# Altium schematic symbol library MOSFETs-SO.SchLib: 8 symbols
Pins are listed as number, name and electrical type; pins without a type are passive.

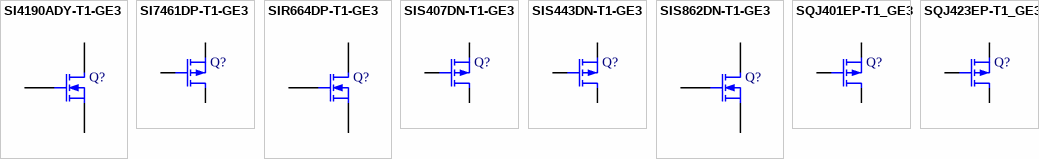
[diagram p0: symbols SI4190ADY-T1-GE3 to SQJ423EP-T1_GE3]

## SI4190ADY-T1-GE3
designator Q?  (value not drawn)
N-Channel MOSFET; Manufacturer: Vishay; PartNumber: SI4190ADY-T1-GE3; Mounting Technology: Surface Mount; PackageReference: SO-8
footprint SO-8 (SOIC, 8-Leads, Body 4.90x3.90mm, Pitch 1.27mm, IPC Medium Density)
pins: 1 S, 2 G, 3 D

## SI7461DP-T1-GE3
designator Q?  (value not drawn)
P-Channel MOSFET; Manufacturer: Vishay; PartNumber: SI7461DP-T1-GE3; Mounting Technology: Surface Mount; PackageReference: PowerPAK SO-8
footprint PowerPak-8 (SOIC, 8-Leads, Body 4.90x3.90mm, Pitch 1.27mm, IPC Medium Density)
pins: 1 S, 2 G, 3 D

## SIR664DP-T1-GE3
designator Q?  (value not drawn)
N-Channel MOSFET; Manufacturer: Vishay; PartNumber: SIR664DP-T1-GE3; Mounting Technology: Surface Mount; PackageReference: PowerPAK-8
footprint PowerPak-8 (SOIC, 8-Leads, Body 4.90x3.90mm, Pitch 1.27mm, IPC Medium Density)
pins: 1 S, 2 G, 3 D

## SIS407DN-T1-GE3
designator Q?  (value not drawn)
P-Channel MOSFET; Manufacturer: Vishay; PartNumber: SIS407DN-T1-GE3; Mounting Technology: Surface Mount; PackageReference: PowerPAK-1212-8
footprint PowerPak-1212-8 (SOIC, 8-Leads, Body 4.90x3.90mm, Pitch 1.27mm, IPC Medium Density)
pins: 1 S, 2 G, 3 D

## SIS443DN-T1-GE3
designator Q?  (value not drawn)
P-Channel MOSFET; Manufacturer: Vishay; PartNumber: SIS443DN-T1-GE3; Mounting Technology: Surface Mount; PackageReference: PowerPAK-1212-8
footprint PowerPak-1212-8 (SOIC, 8-Leads, Body 4.90x3.90mm, Pitch 1.27mm, IPC Medium Density)
pins: 1 S, 2 G, 3 D

## SIS862DN-T1-GE3
designator Q?  (value not drawn)
N-Channel MOSFET; Manufacturer: Vishay; PartNumber: SIS862DN-T1-GE3; Mounting Technology: Surface Mount; PackageReference: PowerPAK-1212-8
footprint PowerPak-1212-8 (SOIC, 8-Leads, Body 4.90x3.90mm, Pitch 1.27mm, IPC Medium Density)
pins: 1 S, 2 G, 3 D

## SQJ401EP-T1_GE3
designator Q?  (value not drawn)
P-Channel MOSFET; Manufacturer: Vishay; PartNumber: SQJ401EP-T1_GE3; Mounting Technology: Surface Mount; PackageReference: PowerPAK SO-8
footprint PowerPak-8 (SOIC, 8-Leads, Body 4.90x3.90mm, Pitch 1.27mm, IPC Medium Density)
pins: 1 S, 2 G, 3 D

## SQJ423EP-T1_GE3
designator Q?  (value not drawn)
P-Channel MOSFET; Manufacturer: Vishay; PartNumber: SQJ423EP-T1_GE3; Mounting Technology: Surface Mount; PackageReference: PowerPAK SO-8
footprint PowerPak-8 (SOIC, 8-Leads, Body 4.90x3.90mm, Pitch 1.27mm, IPC Medium Density)
pins: 1 S, 2 G, 3 D